# EAGLE library part XSHEADER84 (library xess)
Prototyping header for XS40, XS95, XSA and XSTE5 boards.
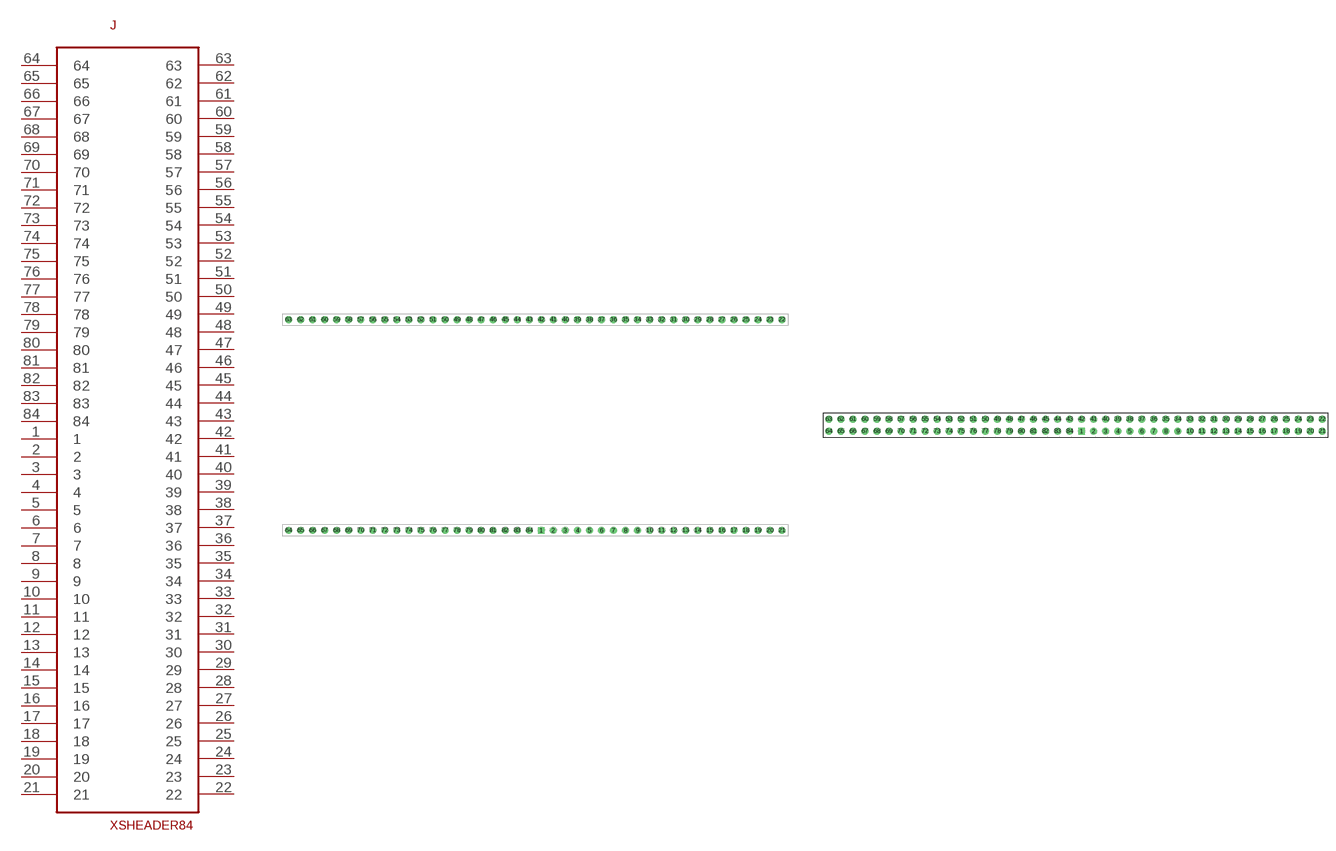
[diagram p5: symbol with the pads of XSHEADER84; footprints XSHEADER84, XSSLIMHEADER84]

Designator prefix J

## XSHEADER841  [XSHEADER84]
1  1
2  2
3  3
4  4
5  5
6  6
7  7
8  8
9  9
10  10
11  11
12  12
13  13
14  14
15  15
16  16
17  17
18  18
19  19
20  20
21  21
22  22
23  23
24  24
25  25
26  26
27  27
28  28
29  29
30  30
31  31
32  32
33  33
34  34
35  35
36  36
37  37
38  38
39  39
40  40
41  41
42  42
43  43
44  44
45  45
46  46
47  47
48  48
49  49
50  50
51  51
52  52
53  53
54  54
55  55
56  56
57  57
58  58
59  59
60  60
61  61
62  62
63  63
64  64
65  65
66  66
67  67
68  68
69  69
70  70
71  71
72  72
73  73
74  74
75  75
76  76
77  77
78  78
79  79
80  80
81  81
82  82
83  83
84  84

## XSHEADER842  [XSSLIMHEADER84]
Pads as for XSHEADER84

## XSHEADER843  [XSFATHEADER84]
Pads as for XSHEADER84

## Footprint XSHEADER84 (pad centres in mm)
drill 0.914 square: 1 0,0
drill 0.914 round: 2 2.54,0; 3 5.08,0; 4 7.62,0; 5 10.16,0; 6 12.7,0; 7 15.24,0; 8 17.78,0; 9 20.32,0; 10 22.86,0; 11 25.4,0; 12 27.94,0; 13 30.48,0; 14 33.02,0; 15 35.56,0; 16 38.1,0; 17 40.64,0; 18 43.18,0; 19 45.72,0; 20 48.26,0; 21 50.8,0; 22 50.8,44.45; 23 48.26,44.45; 24 45.72,44.45; 25 43.18,44.45; 26 40.64,44.45; 27 38.1,44.45; 28 35.56,44.45; 29 33.02,44.45; 30 30.48,44.45; 31 27.94,44.45; 32 25.4,44.45; 33 22.86,44.45; 34 20.32,44.45; 35 17.78,44.45; 36 15.24,44.45; 37 12.7,44.45; 38 10.16,44.45; 39 7.62,44.45; 40 5.08,44.45; 41 2.54,44.45; 42 0,44.45; 43 -2.54,44.45; 44 -5.08,44.45; 45 -7.62,44.45; 46 -10.16,44.45; 47 -12.7,44.45; 48 -15.24,44.45; 49 -17.78,44.45; 50 -20.32,44.45; 51 -22.86,44.45; 52 -25.4,44.45; 53 -27.94,44.45; 54 -30.48,44.45; 55 -33.02,44.45; 56 -35.56,44.45; 57 -38.1,44.45; 58 -40.64,44.45; 59 -43.18,44.45; 60 -45.72,44.45; 61 -48.26,44.45; 62 -50.8,44.45; 63 -53.34,44.45; 64 -53.34,0; 65 -50.8,0; 66 -48.26,0; 67 -45.72,0; 68 -43.18,0; 69 -40.64,0; 70 -38.1,0; 71 -35.56,0; 72 -33.02,0; 73 -30.48,0; 74 -27.94,0; 75 -25.4,0; 76 -22.86,0; 77 -20.32,0; 78 -17.78,0; 79 -15.24,0; 80 -12.7,0; 81 -10.16,0; 82 -7.62,0; 83 -5.08,0; 84 -2.54,0

## Footprint XSSLIMHEADER84 (pad centres in mm)
drill 0.914 square: 1 0,0
drill 0.914 round: 2 2.54,0; 3 5.08,0; 4 7.62,0; 5 10.16,0; 6 12.7,0; 7 15.24,0; 8 17.78,0; 9 20.32,0; 10 22.86,0; 11 25.4,0; 12 27.94,0; 13 30.48,0; 14 33.02,0; 15 35.56,0; 16 38.1,0; 17 40.64,0; 18 43.18,0; 19 45.72,0; 20 48.26,0; 21 50.8,0; 22 50.8,2.54; 23 48.26,2.54; 24 45.72,2.54; 25 43.18,2.54; 26 40.64,2.54; 27 38.1,2.54; 28 35.56,2.54; 29 33.02,2.54; 30 30.48,2.54; 31 27.94,2.54; 32 25.4,2.54; 33 22.86,2.54; 34 20.32,2.54; 35 17.78,2.54; 36 15.24,2.54; 37 12.7,2.54; 38 10.16,2.54; 39 7.62,2.54; 40 5.08,2.54; 41 2.54,2.54; 42 0,2.54; 43 -2.54,2.54; 44 -5.08,2.54; 45 -7.62,2.54; 46 -10.16,2.54; 47 -12.7,2.54; 48 -15.24,2.54; 49 -17.78,2.54; 50 -20.32,2.54; 51 -22.86,2.54; 52 -25.4,2.54; 53 -27.94,2.54; 54 -30.48,2.54; 55 -33.02,2.54; 56 -35.56,2.54; 57 -38.1,2.54; 58 -40.64,2.54; 59 -43.18,2.54; 60 -45.72,2.54; 61 -48.26,2.54; 62 -50.8,2.54; 63 -53.34,2.54; 64 -53.34,0; 65 -50.8,0; 66 -48.26,0; 67 -45.72,0; 68 -43.18,0; 69 -40.64,0; 70 -38.1,0; 71 -35.56,0; 72 -33.02,0; 73 -30.48,0; 74 -27.94,0; 75 -25.4,0; 76 -22.86,0; 77 -20.32,0; 78 -17.78,0; 79 -15.24,0; 80 -12.7,0; 81 -10.16,0; 82 -7.62,0; 83 -5.08,0; 84 -2.54,0

## Footprint XSFATHEADER84 (pad centres in mm)
drill 0.914 square: 1 1.27,-24.13
drill 0.914 round: 2 3.81,-24.13; 3 6.35,-24.13; 4 8.89,-24.13; 5 11.43,-24.13; 6 13.97,-24.13; 7 16.51,-24.13; 8 19.05,-24.13; 9 21.59,-24.13; 10 24.13,-24.13; 11 26.67,-24.13; 12 29.21,-24.13; 13 31.75,-24.13; 14 34.29,-24.13; 15 36.83,-24.13; 16 39.37,-24.13; 17 41.91,-24.13; 18 44.45,-24.13; 19 46.99,-24.13; 20 49.53,-24.13; 21 52.07,-24.13; 22 52.07,25.4; 23 49.53,25.4; 24 46.99,25.4; 25 44.45,25.4; 26 41.91,25.4; 27 39.37,25.4; 28 36.83,25.4; 29 34.29,25.4; 30 31.75,25.4; 31 29.21,25.4; 32 26.67,25.4; 33 24.13,25.4; 34 21.59,25.4; 35 19.05,25.4; 36 16.51,25.4; 37 13.97,25.4; 38 11.43,25.4; 39 8.89,25.4; 40 6.35,25.4; 41 3.81,25.4; 42 1.27,25.4; 43 -1.27,25.4; 44 -3.81,25.4; 45 -6.35,25.4; 46 -8.89,25.4; 47 -11.43,25.4; 48 -13.97,25.4; 49 -16.51,25.4; 50 -19.05,25.4; 51 -21.59,25.4; 52 -24.13,25.4; 53 -26.67,25.4; 54 -29.21,25.4; 55 -31.75,25.4; 56 -34.29,25.4; 57 -36.83,25.4; 58 -39.37,25.4; 59 -41.91,25.4; 60 -44.45,25.4; 61 -46.99,25.4; 62 -49.53,25.4; 63 -52.07,25.4; 64 -52.07,-24.13; 65 -49.53,-24.13; 66 -46.99,-24.13; 67 -44.45,-24.13; 68 -41.91,-24.13; 69 -39.37,-24.13; 70 -36.83,-24.13; 71 -34.29,-24.13; 72 -31.75,-24.13; 73 -29.21,-24.13; 74 -26.67,-24.13; 75 -24.13,-24.13; 76 -21.59,-24.13; 77 -19.05,-24.13; 78 -16.51,-24.13; 79 -13.97,-24.13; 80 -11.43,-24.13; 81 -8.89,-24.13; 82 -6.35,-24.13; 83 -3.81,-24.13; 84 -1.27,-24.13